# Altium footprint library G5NB.PcbLib: 1 footprints
Each footprint in its own frame and in the unit in brackets; x right, y up, seen from the top. Pads: shape width x height; smd on the part's side, far side on the other; paste and mask are expansions set on the pad; w line width, h text height; cw(c..) or ccw(c..) is an arc to the next point about the centre after c.
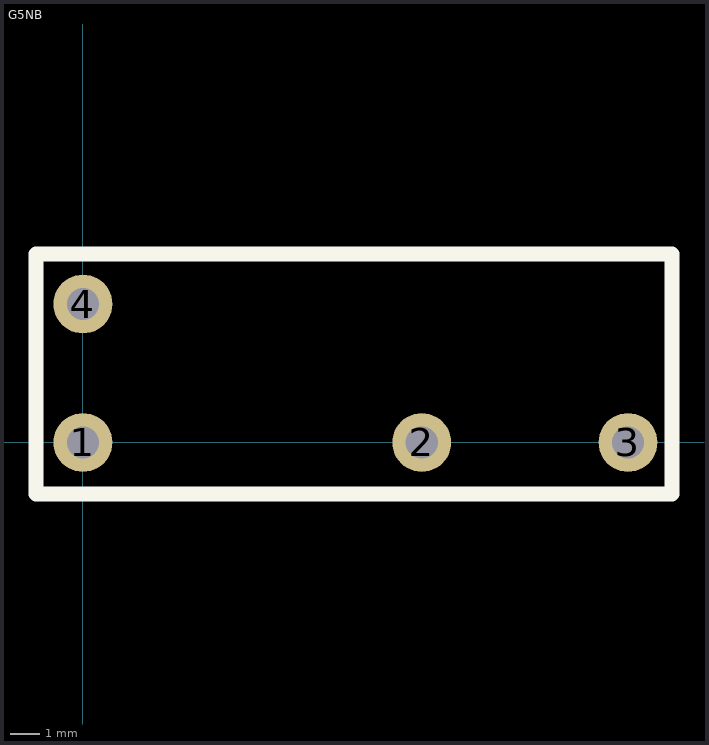
[diagram p0: the footprint, top view; thin cyan lines are the x and y axes]

## G5NB [mm]
height 15.3
pads (4):
  round 2 hole 1.1: 1(0,0) 2(11.5,0) 3(18.5,0) 4(0,4.7)
Top Overlay:
  lines w0.508: -1.6,-1.75 -1.6,6.4 20,6.4 20,-1.75 -1.6,-1.75
3D body "G5NB_1A.x_t": height 15.3, standoff -3.4, extent -1.05,-1.3 19.45,5.9